# Altium schematic symbol library SCH - MCU - STM32 - ST MICROELECTRONICS STM32N655L0HXQ VFBGA223.SchLib: 1 symbol
Pins are listed as number, name and electrical type; pins without a type are passive.

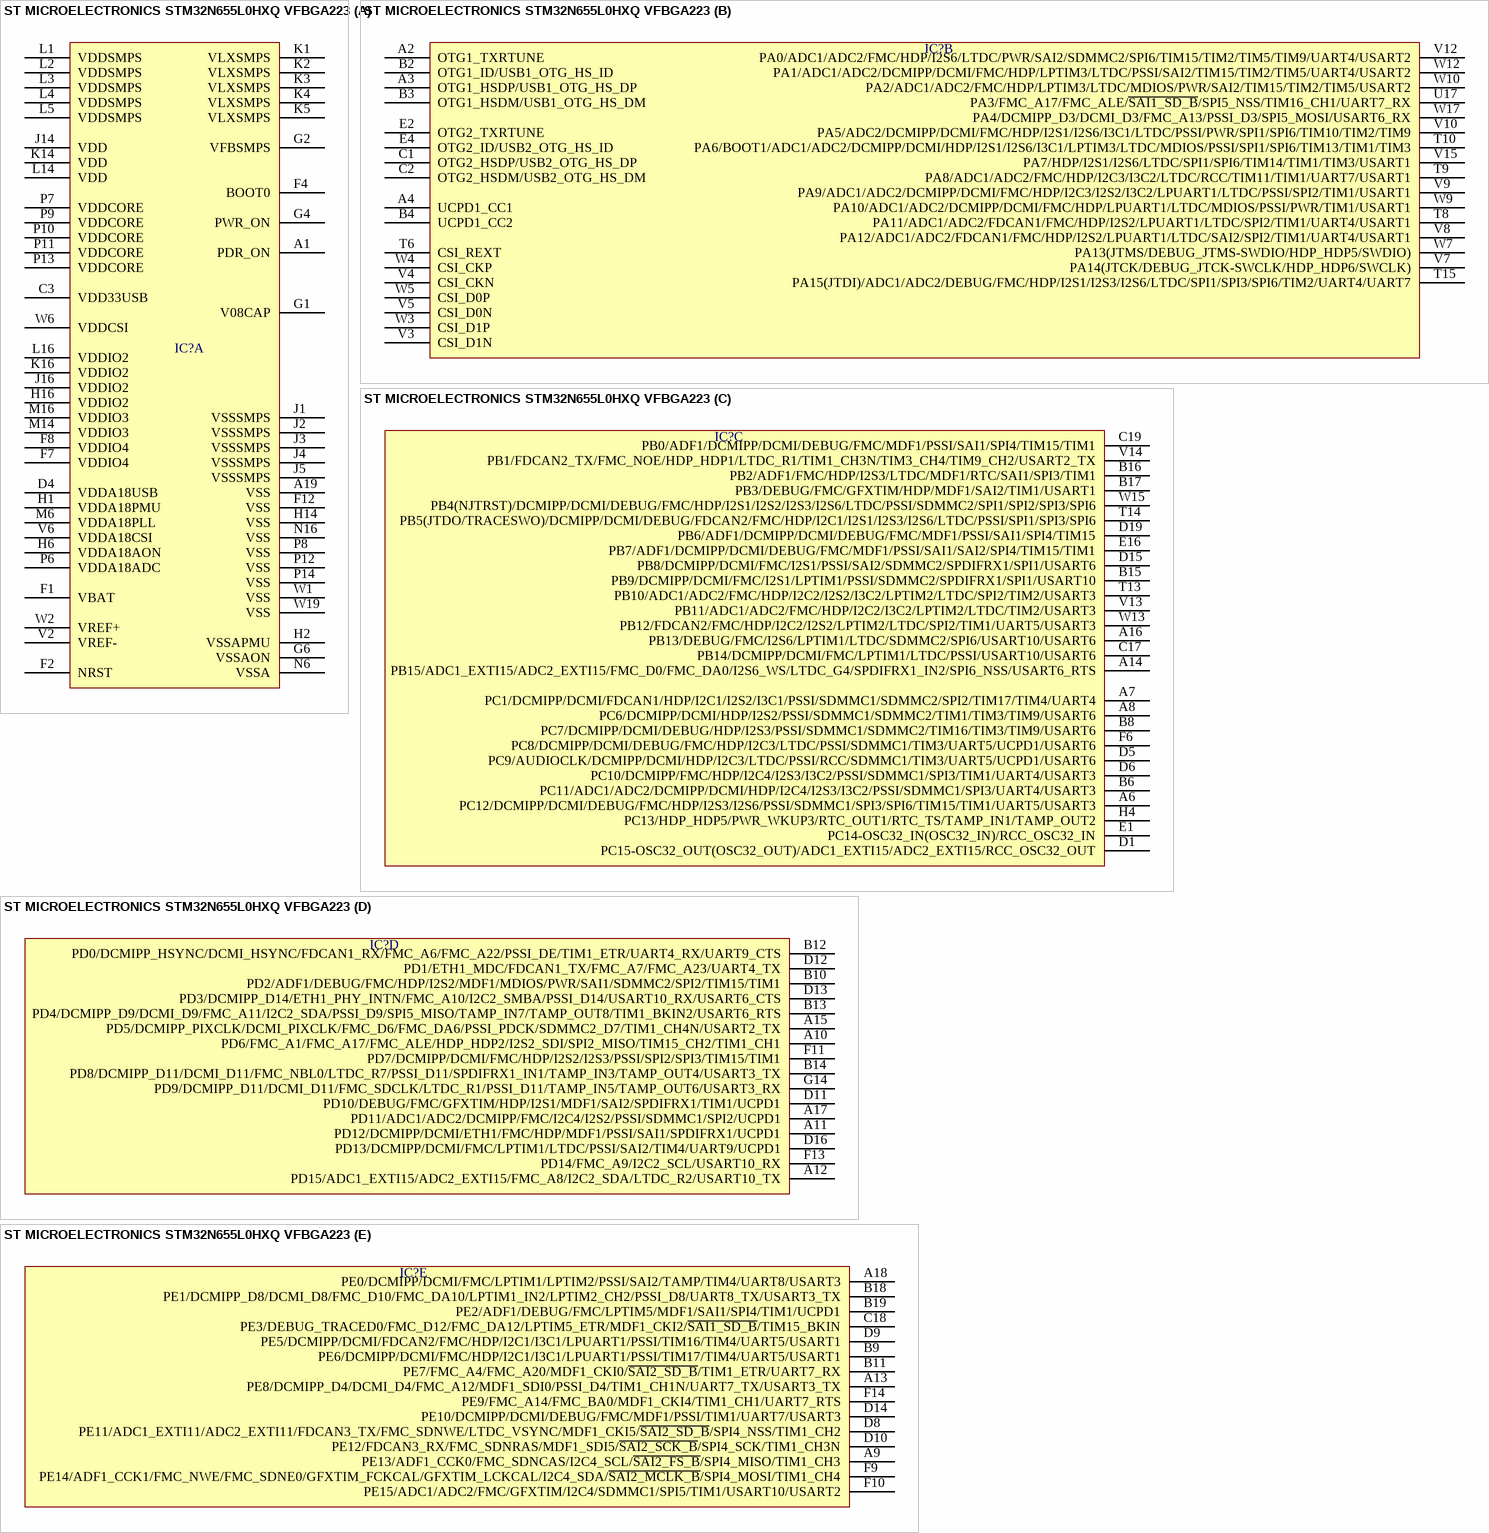
[diagram p0: symbol ST MICROELECTRONICS STM32N655L0HXQ VFBGA223]

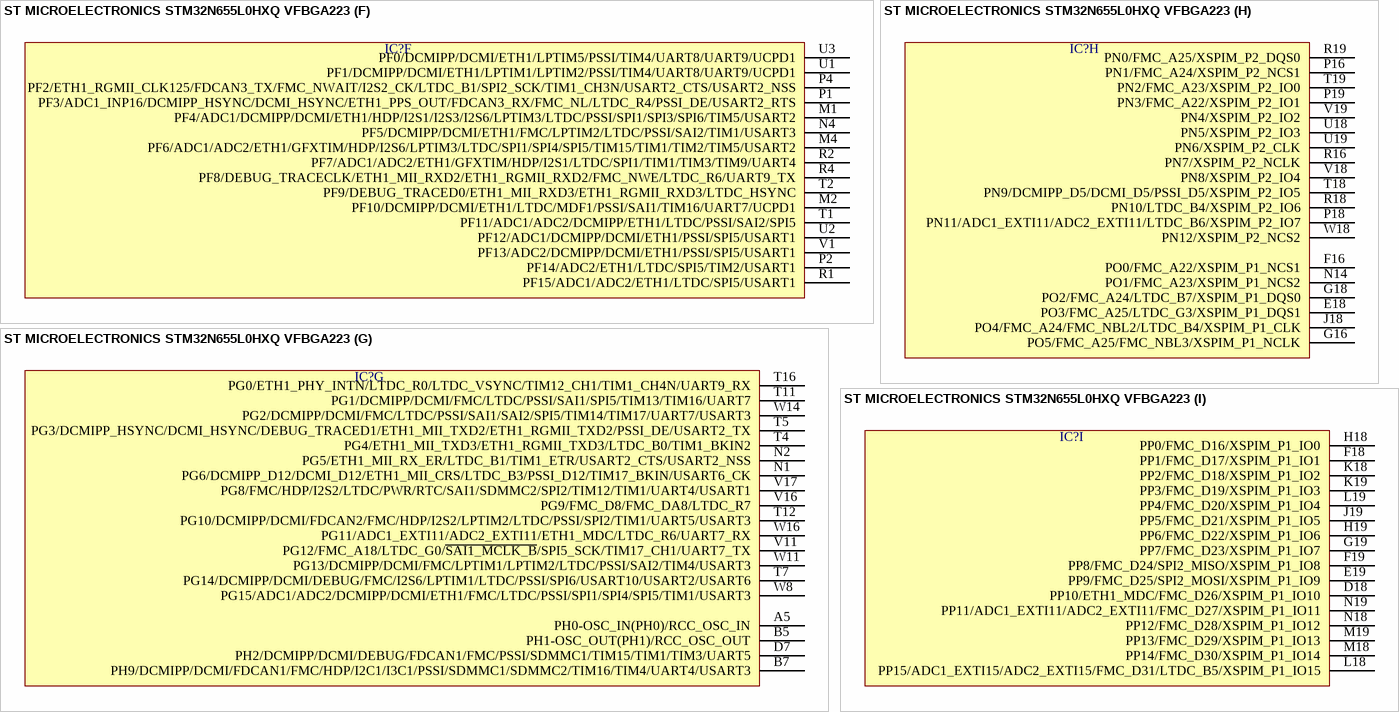
[diagram p1: symbol ST MICROELECTRONICS STM32N655L0HXQ VFBGA223]

## ST MICROELECTRONICS STM32N655L0HXQ VFBGA223
designator IC?  (value not drawn)
part A pins: A1 PDR_ON, A19 VSS, C3 VDD33USB, D4 VDDA18USB, F1 VBAT, F2 NRST, F4 BOOT0, F7 VDDIO4, F8 VDDIO4, F12 VSS, G1 V08CAP, G2 VFBSMPS, G4 PWR_ON, G6 VSSAON, H1 VDDA18PMU, H2 VSSAPMU, H6 VDDA18AON, H14 VSS, H16 VDDIO2, J1 VSSSMPS, J2 VSSSMPS, J3 VSSSMPS, J4 VSSSMPS, J5 VSSSMPS, J14 VDD, J16 VDDIO2, K1 VLXSMPS, K2 VLXSMPS, K3 VLXSMPS, K4 VLXSMPS, K5 VLXSMPS, K14 VDD, K16 VDDIO2, L1 VDDSMPS, L2 VDDSMPS, L3 VDDSMPS, L4 VDDSMPS, L5 VDDSMPS, L14 VDD, L16 VDDIO2, M6 VDDA18PLL, M14 VDDIO3, M16 VDDIO3, N6 VSSA, N16 VSS, P6 VDDA18ADC, P7 VDDCORE, P8 VSS, P9 VDDCORE, P10 VDDCORE, P11 VDDCORE, P12 VSS, P13 VDDCORE, P14 VSS, V2 VREF-, V6 VDDA18CSI, W1 VSS, W2 VREF+, W6 VDDCSI, W19 VSS
part B pins: A2 OTG1_TXRTUNE, A3 OTG1_HSDP/USB1_OTG_HS_DP, A4 UCPD1_CC1, B2 OTG1_ID/USB1_OTG_HS_ID, B3 OTG1_HSDM/USB1_OTG_HS_DM, B4 UCPD1_CC2, C1 OTG2_HSDP/USB2_OTG_HS_DP, C2 OTG2_HSDM/USB2_OTG_HS_DM, E2 OTG2_TXRTUNE, E4 OTG2_ID/USB2_OTG_HS_ID, T6 CSI_REXT, T8 PA11/ADC1/ADC2/FDCAN1/FMC/HDP/I2S2/LPUART1/LTDC/SPI2/TIM1/UART4/USART1, T9 PA8/ADC1/ADC2/FMC/HDP/I2C3/I3C2/LTDC/RCC/TIM11/TIM1/UART7/USART1, T10 PA6/BOOT1/ADC1/ADC2/DCMIPP/DCMI/HDP/I2S1/I2S6/I3C1/LPTIM3/LTDC/MDIOS/PSSI/SPI1/SPI6/TIM13/TIM1/TIM3, T15 PA15(JTDI)/ADC1/ADC2/DEBUG/FMC/HDP/I2S1/I2S3/I2S6/LTDC/SPI1/SPI3/SPI6/TIM2/UART4/UART7, U17 PA3/FMC_A17/FMC_ALE/~{SAI1_SD_B}/SPI5_NSS/TIM16_CH1/UART7_RX, V3 CSI_D1N, V4 CSI_CKN, V5 CSI_D0N, V7 PA14(JTCK/DEBUG_JTCK-SWCLK/HDP_HDP6/SWCLK), V8 PA12/ADC1/ADC2/FDCAN1/FMC/HDP/I2S2/LPUART1/LTDC/SAI2/SPI2/TIM1/UART4/USART1, V9 PA9/ADC1/ADC2/DCMIPP/DCMI/FMC/HDP/I2C3/I2S2/I3C2/LPUART1/LTDC/PSSI/SPI2/TIM1/USART1, V10 PA5/ADC2/DCMIPP/DCMI/FMC/HDP/I2S1/I2S6/I3C1/LTDC/PSSI/PWR/SPI1/SPI6/TIM10/TIM2/TIM9, V12 PA0/ADC1/ADC2/FMC/HDP/I2S6/LTDC/PWR/SAI2/SDMMC2/SPI6/TIM15/TIM2/TIM5/TIM9/UART4/USART2, V15 PA7/HDP/I2S1/I2S6/LTDC/SPI1/SPI6/TIM14/TIM1/TIM3/USART1, W3 CSI_D1P, W4 CSI_CKP, W5 CSI_D0P, W7 PA13(JTMS/DEBUG_JTMS-SWDIO/HDP_HDP5/SWDIO), W9 PA10/ADC1/ADC2/DCMIPP/DCMI/FMC/HDP/LPUART1/LTDC/MDIOS/PSSI/PWR/TIM1/USART1, W10 PA2/ADC1/ADC2/FMC/HDP/LPTIM3/LTDC/MDIOS/PWR/SAI2/TIM15/TIM2/TIM5/USART2, W12 PA1/ADC1/ADC2/DCMIPP/DCMI/FMC/HDP/LPTIM3/LTDC/PSSI/SAI2/TIM15/TIM2/TIM5/UART4/USART2, W17 PA4/DCMIPP_D3/DCMI_D3/FMC_A13/PSSI_D3/SPI5_MOSI/USART6_RX
part C pins: A6 PC12/DCMIPP/DCMI/DEBUG/FMC/HDP/I2S3/I2S6/PSSI/SDMMC1/SPI3/SPI6/TIM15/TIM1/UART5/USART3, A7 PC1/DCMIPP/DCMI/FDCAN1/HDP/I2C1/I2S2/I3C1/PSSI/SDMMC1/SDMMC2/SPI2/TIM17/TIM4/UART4, A8 PC6/DCMIPP/DCMI/HDP/I2S2/PSSI/SDMMC1/SDMMC2/TIM1/TIM3/TIM9/USART6, A14 PB15/ADC1_EXTI15/ADC2_EXTI15/FMC_D0/FMC_DA0/I2S6_WS/LTDC_G4/SPDIFRX1_IN2/SPI6_NSS/USART6_RTS, A16 PB13/DEBUG/FMC/I2S6/LPTIM1/LTDC/SDMMC2/SPI6/USART10/USART6, B6 PC11/ADC1/ADC2/DCMIPP/DCMI/HDP/I2C4/I2S3/I3C2/PSSI/SDMMC1/SPI3/UART4/USART3, B8 PC7/DCMIPP/DCMI/DEBUG/HDP/I2S3/PSSI/SDMMC1/SDMMC2/TIM16/TIM3/TIM9/USART6, B15 PB9/DCMIPP/DCMI/FMC/I2S1/LPTIM1/PSSI/SDMMC2/SPDIFRX1/SPI1/USART10, B16 PB2/ADF1/FMC/HDP/I2S3/LTDC/MDF1/RTC/SAI1/SPI3/TIM1, B17 PB3/DEBUG/FMC/GFXTIM/HDP/MDF1/SAI2/TIM1/USART1, C17 PB14/DCMIPP/DCMI/FMC/LPTIM1/LTDC/PSSI/USART10/USART6, C19 PB0/ADF1/DCMIPP/DCMI/DEBUG/FMC/MDF1/PSSI/SAI1/SPI4/TIM15/TIM1, D1 PC15-OSC32_OUT(OSC32_OUT)/ADC1_EXTI15/ADC2_EXTI15/RCC_OSC32_OUT, D5 PC9/AUDIOCLK/DCMIPP/DCMI/HDP/I2C3/LTDC/PSSI/RCC/SDMMC1/TIM3/UART5/UCPD1/USART6, D6 PC10/DCMIPP/FMC/HDP/I2C4/I2S3/I3C2/PSSI/SDMMC1/SPI3/TIM1/UART4/USART3, D15 PB8/DCMIPP/DCMI/FMC/I2S1/PSSI/SAI2/SDMMC2/SPDIFRX1/SPI1/USART6, D19 PB6/ADF1/DCMIPP/DCMI/DEBUG/FMC/MDF1/PSSI/SAI1/SPI4/TIM15, E1 PC14-OSC32_IN(OSC32_IN)/RCC_OSC32_IN, E16 PB7/ADF1/DCMIPP/DCMI/DEBUG/FMC/MDF1/PSSI/SAI1/SAI2/SPI4/TIM15/TIM1, F6 PC8/DCMIPP/DCMI/DEBUG/FMC/HDP/I2C3/LTDC/PSSI/SDMMC1/TIM3/UART5/UCPD1/USART6, H4 PC13/HDP_HDP5/PWR_WKUP3/RTC_OUT1/RTC_TS/TAMP_IN1/TAMP_OUT2, T13 PB10/ADC1/ADC2/FMC/HDP/I2C2/I2S2/I3C2/LPTIM2/LTDC/SPI2/TIM2/USART3, T14 PB5(JTDO/TRACESWO)/DCMIPP/DCMI/DEBUG/FDCAN2/FMC/HDP/I2C1/I2S1/I2S3/I2S6/LTDC/PSSI/SPI1/SPI3/SPI6, V13 PB11/ADC1/ADC2/FMC/HDP/I2C2/I3C2/LPTIM2/LTDC/TIM2/USART3, V14 PB1/FDCAN2_TX/FMC_NOE/HDP_HDP1/LTDC_R1/TIM1_CH3N/TIM3_CH4/TIM9_CH2/USART2_TX, W13 PB12/FDCAN2/FMC/HDP/I2C2/I2S2/LPTIM2/LTDC/SPI2/TIM1/UART5/USART3, W15 PB4(NJTRST)/DCMIPP/DCMI/DEBUG/FMC/HDP/I2S1/I2S2/I2S3/I2S6/LTDC/PSSI/SDMMC2/SPI1/SPI2/SPI3/SPI6
part D pins: A10 PD6/FMC_A1/FMC_A17/FMC_ALE/HDP_HDP2/I2S2_SDI/SPI2_MISO/TIM15_CH2/TIM1_CH1, A11 PD12/DCMIPP/DCMI/ETH1/FMC/HDP/MDF1/PSSI/SAI1/SPDIFRX1/UCPD1, A12 PD15/ADC1_EXTI15/ADC2_EXTI15/FMC_A8/I2C2_SDA/LTDC_R2/USART10_TX, A15 PD5/DCMIPP_PIXCLK/DCMI_PIXCLK/FMC_D6/FMC_DA6/PSSI_PDCK/SDMMC2_D7/TIM1_CH4N/USART2_TX, A17 PD11/ADC1/ADC2/DCMIPP/FMC/I2C4/I2S2/PSSI/SDMMC1/SPI2/UCPD1, B10 PD2/ADF1/DEBUG/FMC/HDP/I2S2/MDF1/MDIOS/PWR/SAI1/SDMMC2/SPI2/TIM15/TIM1, B12 PD0/DCMIPP_HSYNC/DCMI_HSYNC/FDCAN1_RX/FMC_A6/FMC_A22/PSSI_DE/TIM1_ETR/UART4_RX/UART9_CTS, B13 PD4/DCMIPP_D9/DCMI_D9/FMC_A11/I2C2_SDA/PSSI_D9/SPI5_MISO/TAMP_IN7/TAMP_OUT8/TIM1_BKIN2/USART6_RTS, B14 PD8/DCMIPP_D11/DCMI_D11/FMC_NBL0/LTDC_R7/PSSI_D11/SPDIFRX1_IN1/TAMP_IN3/TAMP_OUT4/USART3_TX, D11 PD10/DEBUG/FMC/GFXTIM/HDP/I2S1/MDF1/SAI2/SPDIFRX1/TIM1/UCPD1, D12 PD1/ETH1_MDC/FDCAN1_TX/FMC_A7/FMC_A23/UART4_TX, D13 PD3/DCMIPP_D14/ETH1_PHY_INTN/FMC_A10/I2C2_SMBA/PSSI_D14/USART10_RX/USART6_CTS, D16 PD13/DCMIPP/DCMI/FMC/LPTIM1/LTDC/PSSI/SAI2/TIM4/UART9/UCPD1, F11 PD7/DCMIPP/DCMI/FMC/HDP/I2S2/I2S3/PSSI/SPI2/SPI3/TIM15/TIM1, F13 PD14/FMC_A9/I2C2_SCL/USART10_RX, G14 PD9/DCMIPP_D11/DCMI_D11/FMC_SDCLK/LTDC_R1/PSSI_D11/TAMP_IN5/TAMP_OUT6/USART3_RX
part E pins: A9 PE13/ADF1_CCK0/FMC_SDNCAS/I2C4_SCL/~{SAI2_FS_B}/SPI4_MISO/TIM1_CH3, A13 PE8/DCMIPP_D4/DCMI_D4/FMC_A12/MDF1_SDI0/PSSI_D4/TIM1_CH1N/UART7_TX/USART3_TX, A18 PE0/DCMIPP/DCMI/FMC/LPTIM1/LPTIM2/PSSI/SAI2/TAMP/TIM4/UART8/USART3, B9 PE6/DCMIPP/DCMI/FMC/HDP/I2C1/I3C1/LPUART1/PSSI/TIM17/TIM4/UART5/USART1, B11 PE7/FMC_A4/FMC_A20/MDF1_CKI0/~{SAI2_SD_B}/TIM1_ETR/UART7_RX, B18 PE1/DCMIPP_D8/DCMI_D8/FMC_D10/FMC_DA10/LPTIM1_IN2/LPTIM2_CH2/PSSI_D8/UART8_TX/USART3_TX, B19 PE2/ADF1/DEBUG/FMC/LPTIM5/MDF1/SAI1/SPI4/TIM1/UCPD1, C18 PE3/DEBUG_TRACED0/FMC_D12/FMC_DA12/LPTIM5_ETR/MDF1_CKI2/~{SAI1_SD_B}/TIM15_BKIN, D8 PE11/ADC1_EXTI11/ADC2_EXTI11/FDCAN3_TX/FMC_SDNWE/LTDC_VSYNC/MDF1_CKI5/~{SAI2_SD_B}/SPI4_NSS/TIM1_CH2, D9 PE5/DCMIPP/DCMI/FDCAN2/FMC/HDP/I2C1/I3C1/LPUART1/PSSI/TIM16/TIM4/UART5/USART1, D10 PE12/FDCAN3_RX/FMC_SDNRAS/MDF1_SDI5/~{SAI2_SCK_B}/SPI4_SCK/TIM1_CH3N, D14 PE10/DCMIPP/DCMI/DEBUG/FMC/MDF1/PSSI/TIM1/UART7/USART3, F9 PE14/ADF1_CCK1/FMC_NWE/FMC_SDNE0/GFXTIM_FCKCAL/GFXTIM_LCKCAL/I2C4_SDA/~{SAI2_MCLK_B}/SPI4_MOSI/TIM1_CH4, F10 PE15/ADC1/ADC2/FMC/GFXTIM/I2C4/SDMMC1/SPI5/TIM1/USART10/USART2, F14 PE9/FMC_A14/FMC_BA0/MDF1_CKI4/TIM1_CH1/UART7_RTS
part F pins: M1 PF4/ADC1/DCMIPP/DCMI/ETH1/HDP/I2S1/I2S3/I2S6/LPTIM3/LTDC/PSSI/SPI1/SPI3/SPI6/TIM5/USART2, M2 PF10/DCMIPP/DCMI/ETH1/LTDC/MDF1/PSSI/SAI1/TIM16/UART7/UCPD1, M4 PF6/ADC1/ADC2/ETH1/GFXTIM/HDP/I2S6/LPTIM3/LTDC/SPI1/SPI4/SPI5/TIM15/TIM1/TIM2/TIM5/USART2, N4 PF5/DCMIPP/DCMI/ETH1/FMC/LPTIM2/LTDC/PSSI/SAI2/TIM1/USART3, P1 PF3/ADC1_INP16/DCMIPP_HSYNC/DCMI_HSYNC/ETH1_PPS_OUT/FDCAN3_RX/FMC_NL/LTDC_R4/PSSI_DE/USART2_RTS, P2 PF14/ADC2/ETH1/LTDC/SPI5/TIM2/USART1, P4 PF2/ETH1_RGMII_CLK125/FDCAN3_TX/FMC_NWAIT/I2S2_CK/LTDC_B1/SPI2_SCK/TIM1_CH3N/USART2_CTS/USART2_NSS, R1 PF15/ADC1/ADC2/ETH1/LTDC/SPI5/USART1, R2 PF7/ADC1/ADC2/ETH1/GFXTIM/HDP/I2S1/LTDC/SPI1/TIM1/TIM3/TIM9/UART4, R4 PF8/DEBUG_TRACECLK/ETH1_MII_RXD2/ETH1_RGMII_RXD2/FMC_NWE/LTDC_R6/UART9_TX, T1 PF11/ADC1/ADC2/DCMIPP/ETH1/LTDC/PSSI/SAI2/SPI5, T2 PF9/DEBUG_TRACED0/ETH1_MII_RXD3/ETH1_RGMII_RXD3/LTDC_HSYNC, U1 PF1/DCMIPP/DCMI/ETH1/LPTIM1/LPTIM2/PSSI/TIM4/UART8/UART9/UCPD1, U2 PF12/ADC1/DCMIPP/DCMI/ETH1/PSSI/SPI5/USART1, U3 PF0/DCMIPP/DCMI/ETH1/LPTIM5/PSSI/TIM4/UART8/UART9/UCPD1, V1 PF13/ADC2/DCMIPP/DCMI/ETH1/PSSI/SPI5/USART1
part G pins: A5 PH0-OSC_IN(PH0)/RCC_OSC_IN, B5 PH1-OSC_OUT(PH1)/RCC_OSC_OUT, B7 PH9/DCMIPP/DCMI/FDCAN1/FMC/HDP/I2C1/I3C1/PSSI/SDMMC1/SDMMC2/TIM16/TIM4/UART4/USART3, D7 PH2/DCMIPP/DCMI/DEBUG/FDCAN1/FMC/PSSI/SDMMC1/TIM15/TIM1/TIM3/UART5, N1 PG6/DCMIPP_D12/DCMI_D12/ETH1_MII_CRS/LTDC_B3/PSSI_D12/TIM17_BKIN/USART6_CK, N2 PG5/ETH1_MII_RX_ER/LTDC_B1/TIM1_ETR/USART2_CTS/USART2_NSS, T4 PG4/ETH1_MII_TXD3/ETH1_RGMII_TXD3/LTDC_B0/TIM1_BKIN2, T5 PG3/DCMIPP_HSYNC/DCMI_HSYNC/DEBUG_TRACED1/ETH1_MII_TXD2/ETH1_RGMII_TXD2/PSSI_DE/USART2_TX, T7 PG14/DCMIPP/DCMI/DEBUG/FMC/I2S6/LPTIM1/LTDC/PSSI/SPI6/USART10/USART2/USART6, T11 PG1/DCMIPP/DCMI/FMC/LTDC/PSSI/SAI1/SPI5/TIM13/TIM16/UART7, T12 PG10/DCMIPP/DCMI/FDCAN2/FMC/HDP/I2S2/LPTIM2/LTDC/PSSI/SPI2/TIM1/UART5/USART3, T16 PG0/ETH1_PHY_INTN/LTDC_R0/LTDC_VSYNC/TIM12_CH1/TIM1_CH4N/UART9_RX, V11 PG12/FMC_A18/LTDC_G0/~{SAI1_MCLK_B}/SPI5_SCK/TIM17_CH1/UART7_TX, V16 PG9/FMC_D8/FMC_DA8/LTDC_R7, V17 PG8/FMC/HDP/I2S2/LTDC/PWR/RTC/SAI1/SDMMC2/SPI2/TIM12/TIM1/UART4/USART1, W8 PG15/ADC1/ADC2/DCMIPP/DCMI/ETH1/FMC/LTDC/PSSI/SPI1/SPI4/SPI5/TIM1/USART3, W11 PG13/DCMIPP/DCMI/FMC/LPTIM1/LPTIM2/LTDC/PSSI/SAI2/TIM4/USART3, W14 PG2/DCMIPP/DCMI/FMC/LTDC/PSSI/SAI1/SAI2/SPI5/TIM14/TIM17/UART7/USART3, W16 PG11/ADC1_EXTI11/ADC2_EXTI11/ETH1_MDC/LTDC_R6/UART7_RX
part H pins: E18 PO3/FMC_A25/LTDC_G3/XSPIM_P1_DQS1, F16 PO0/FMC_A22/XSPIM_P1_NCS1, G16 PO5/FMC_A25/FMC_NBL3/XSPIM_P1_NCLK, G18 PO2/FMC_A24/LTDC_B7/XSPIM_P1_DQS0, J18 PO4/FMC_A24/FMC_NBL2/LTDC_B4/XSPIM_P1_CLK, N14 PO1/FMC_A23/XSPIM_P1_NCS2, P16 PN1/FMC_A24/XSPIM_P2_NCS1, P18 PN11/ADC1_EXTI11/ADC2_EXTI11/LTDC_B6/XSPIM_P2_IO7, P19 PN3/FMC_A22/XSPIM_P2_IO1, R16 PN7/XSPIM_P2_NCLK, R18 PN10/LTDC_B4/XSPIM_P2_IO6, R19 PN0/FMC_A25/XSPIM_P2_DQS0, T18 PN9/DCMIPP_D5/DCMI_D5/PSSI_D5/XSPIM_P2_IO5, T19 PN2/FMC_A23/XSPIM_P2_IO0, U18 PN5/XSPIM_P2_IO3, U19 PN6/XSPIM_P2_CLK, V18 PN8/XSPIM_P2_IO4, V19 PN4/XSPIM_P2_IO2, W18 PN12/XSPIM_P2_NCS2
part I pins: D18 PP10/ETH1_MDC/FMC_D26/XSPIM_P1_IO10, E19 PP9/FMC_D25/SPI2_MOSI/XSPIM_P1_IO9, F18 PP1/FMC_D17/XSPIM_P1_IO1, F19 PP8/FMC_D24/SPI2_MISO/XSPIM_P1_IO8, G19 PP7/FMC_D23/XSPIM_P1_IO7, H18 PP0/FMC_D16/XSPIM_P1_IO0, H19 PP6/FMC_D22/XSPIM_P1_IO6, J19 PP5/FMC_D21/XSPIM_P1_IO5, K18 PP2/FMC_D18/XSPIM_P1_IO2, K19 PP3/FMC_D19/XSPIM_P1_IO3, L18 PP15/ADC1_EXTI15/ADC2_EXTI15/FMC_D31/LTDC_B5/XSPIM_P1_IO15, L19 PP4/FMC_D20/XSPIM_P1_IO4, M18 PP14/FMC_D30/XSPIM_P1_IO14, M19 PP13/FMC_D29/XSPIM_P1_IO13, N18 PP12/FMC_D28/XSPIM_P1_IO12, N19 PP11/ADC1_EXTI11/ADC2_EXTI11/FMC_D27/XSPIM_P1_IO11